# Altium integrated library Infineon_Power_Supply_Voltage_Regulator.IntLib: 346 symbols (part 13 of 16)
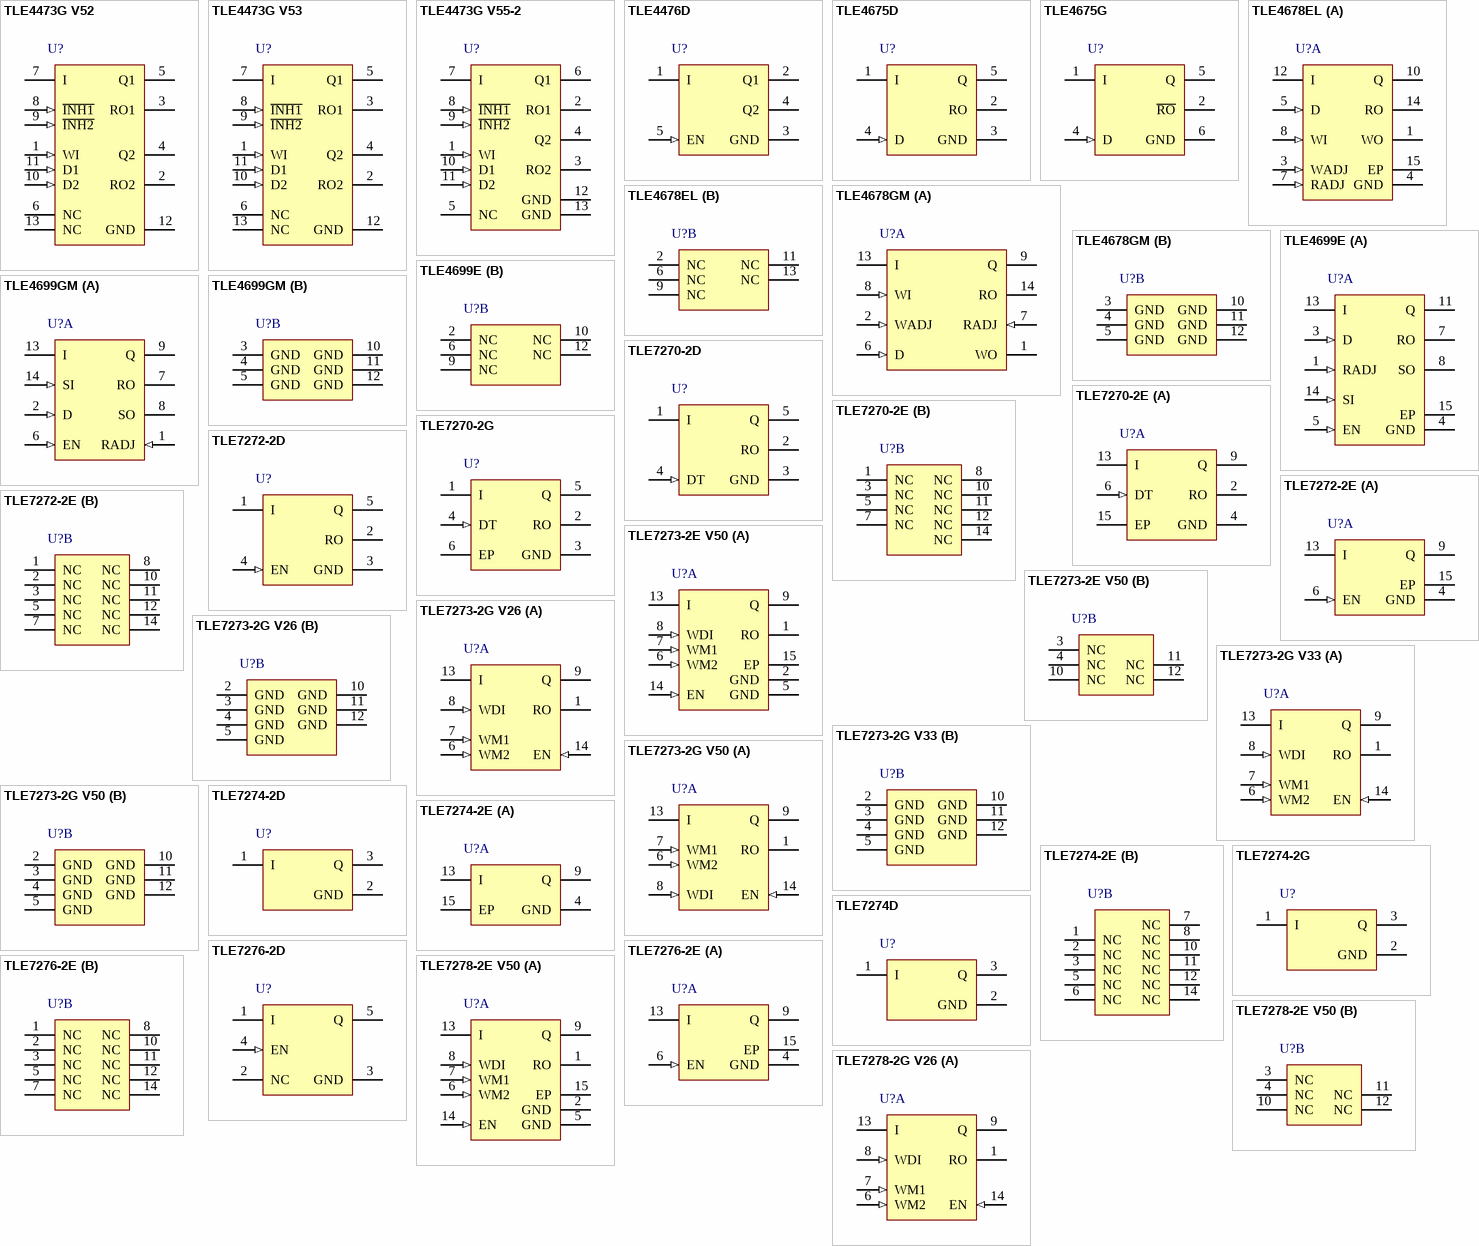
[diagram p21: symbols TLE4473G V52 to TLE7278-2G V26]

## TLE7274D
designator U?
5 V Low Drop Voltage Regluator, 5.5 to 42 V Supply, -40 to 150 degC, P-TO252-3-1, Reel, Green; Manufacturer: Infineon; PartNumber: TLE7274D; Accuracy: 2 %; Dropout Voltage: 250 mV; Max. Output Current: 300 mA; Output Voltage: 5V; Regulator Type: single output; Typical Quiescent Current: 20 uA; DatasheetVersion: Rev. 1.1; PackageVersion: Jul-05; PackageReference: P-TO252-3-1; PackageDescription: 3-Pin Plastic Transistor Single Outline Package, 6.5 x 6.12 mm Body, 2.28 mm Pitch; Supplier 1: Mouser; Supplier Part Number 1: 726-TLE7274D; Supplier 2: Digi-Key; Supplier Part Number 2: TLE7274DTR-ND; Supplier 3: Digi-Key; Supplier Part Number 3: TLE7274DCT-ND; Supplier 4: Digi-Key; Supplier Part Number 4: TLE7274DDKR-ND; Operating Range: 5.5 to 42 V; Packing: Reel; Mounting Technology: Surface Mount; ComponentLink1Description: Manufacturer URL; ComponentLink1URL: http://www.infineon.com/; ComponentLink2Description: Datasheet; ComponentLink2URL: http://www.infineon.com/dgdl/tle727420V1_1.pdf?folderId=db3a304412b407950112b408e8c90004&fileId=db3a304412b407950112b436c18e66c4&location=en.Products.Automotive_ICs.Linear_Voltage_Regulators_for_Automotive-Applications.Linear_Voltage_Regulators_-_Selection_Table.DATASHEET.tle727420V1_1.pdf; ComponentLink3Description: Package Specification; ComponentLink3URL: http://www.infineon.com/dgdl/tle727420V1_1.pdf?folderId=db3a304412b407950112b408e8c90004&fileId=db3a304412b407950112b436c18e66c4&location=en.Products.Automotive_ICs.Linear_Voltage_Regulators_for_Automotive-Applications.Linear_Voltage_Regulators_-_Selection_Table.DATASHEET.tle727420V1_1.pdf
footprint INF-P-TO252-3-1_N (DPAK, 3-Leads, Body 6.5x6.12mm, Pitch 2.28mm, IPC Medium Density)
footprint INF-P-TO252-3-1_L (DPAK, 3-Leads, Body 6.5x6.12mm, Pitch 2.28mm, IPC High Density)
footprint INF-P-TO252-3-1_M (DPAK, 3-Leads, Body 6.5x6.12mm, Pitch 2.28mm, IPC Low Density)
pins: 1 I (power) "Input; block to ground directly at the IC with a ceramic capacitor.", 2 GND (power) "Ground; Connected to the heatsink of the package.", 3 Q (power) "Output; block to ground with a ceramic capacitor."

## TLE7276-2D
designator U?
5 V Low Drop Voltage Regulator, 5.5 to 42 V Supply, -40 to 150 degC, PG-TO252-5-11, Reel, Green; Manufacturer: Infineon; PartNumber: TLE7276-2D; Accuracy: 2 %; Dropout Voltage: 250 mV; Green: TRUE; Max. Output Current: 300 mA; Output Voltage: 5V; Regulator Type: single output; Typical Quiescent Current: 20 uA; DatasheetVersion: Rev. 1.0; PackageVersion: Nov-10; PackageReference: PG-TO252-5-11; PackageDescription: 5-Pin Plastic (Green) Transistor Single Outline Package, 6.5 x 6.12 mm Body, 1.14 mm Pitch; Supplier 1: Mouser; Supplier Part Number 1: 726-TLE7276-2D; Halogen-free: TRUE; Operating Range: 5.5 to 42 V; Packing: Reel; Mounting Technology: Surface Mount; ComponentLink1Description: Manufacturer URL; ComponentLink1URL: http://www.infineon.com/; ComponentLink2Description: Datasheet; ComponentLink2URL: http://www.infineon.com/dgdl/TLE7276-2_DS_10.pdf?folderId=db3a30431ddc9372011e26863f92474e&fileId=db3a30433a047ba0013a541d2e972045&location=en.Products.Automotive_ICs.Linear_Voltage_Regulators_for_Automotive-Applications.Linear_Voltage_Regulators_-_Selection_Table.DATASHEET.TLE7276-2_DS_10.pdf; ComponentLink3Description: Package Specification; ComponentLink3URL: http://www.infineon.com/dgdl/TLE7276-Data+Sheet-+v1_11.pdf?folderId=db3a304412b407950112b408e8c90004&fileId=db3a304412b407950112b436c53f66c8&sId=db3a30433db6f09f013dc0e43c0428c1
footprint INF-PG-TO252-5-11_N (DPAK, 5-Leads, Body 6.5x6.12mm, Pitch 1.14mm, IPC Medium Density)
footprint INF-PG-TO252-5-11_L (DPAK, 5-Leads, Body 6.5x6.12mm, Pitch 1.14mm, IPC High Density)
footprint INF-PG-TO252-5-11_M (DPAK, 5-Leads, Body 6.5x6.12mm, Pitch 1.14mm, IPC Low Density)
pins: 1 I (power) "Input block to ground directly at the IC with a ceramic capacitor", 2 NC "non connected can be open or connected to GND", 3 GND (power) "Heat Slug internally connected to GND; connect to GND and heatsink area", 4 EN (in) "Enable Input high level input signal enables the IC; low level input signal disables the IC; integrated pull-down resistor", 5 Q (power) "block to ground with a capacitor close to the IC terminals, respecting the values given for its capacitance and ESR in “Functional Range?on Page 6"

## TLE7276-2E
designator U?
5 V Low Drop Voltage Regulator, 5.5 to 42 V Supply, -40 to 150 degC, PG-SSOP-14, Reel, Green; Manufacturer: Infineon; PartNumber: TLE7276-2E; Accuracy: 2 %; Dropout Voltage: 250 mV; Green: TRUE; Max. Output Current: 300 mA; Output Voltage: 5V; Regulator Type: single output; Typical Quiescent Current: 20 uA; DatasheetVersion: Rev. 1.0; PackageVersion: Oct-08; PackageReference: PG-SSOP-14; PackageDescription: 14-Pin Plastic (Green) Shrink Small Outline Package, 4.9 x 3.9 mm Body, 0.65 mm Pitch; Supplier 1: Mouser; Supplier Part Number 1: 726-TLE7276-2E; Supplier 2: Digi-Key; Supplier Part Number 2: TLE7276-2ETR-ND; Supplier 3: Digi-Key; Supplier Part Number 3: TLE7276-2ECT-ND; Supplier 4: Digi-Key; Supplier Part Number 4: TLE7276-2EDKR-ND; Halogen-free: TRUE; Operating Range: 5.5 to 42 V; Packing: Reel; Mounting Technology: Surface Mount; ComponentLink1Description: Manufacturer URL; ComponentLink1URL: http://www.infineon.com/; ComponentLink2Description: Datasheet; ComponentLink2URL: http://www.infineon.com/dgdl/TLE7276-2_DS_10.pdf?folderId=db3a30431ddc9372011e26863f92474e&fileId=db3a30433a047ba0013a541d2e972045&location=en.Products.Automotive_ICs.Linear_Voltage_Regulators_for_Automotive-Applications.Linear_Voltage_Regulators_-_Selection_Table.DATASHEET.TLE7276-2_DS_10.pdf; ComponentLink3Description: Package Specification; ComponentLink3URL: http://www.infineon.com/dgdl/ILD1151-Data-Sheet-11-Infineon.pdf?folderId=db3a30431f848401011fcbf2ab4c04c4&fileId=db3a304330046413013031216f2b20e1&location=en.Products.LED_Drivers___Lighting_ICs.LED_Driver_for_Outdoor_Lighting___Indoor_Lighting.LED_Driver__Product_portfolio_and_Information.DATASHEET.ILD1151-Data-Sheet-11-Infineon.pdf
footprint INF-PG-SSOP-14_N (SOP, 14-Leads, Body 4.9x3.9mm, Pitch 0.65mm, Thermal Pad 3.2x2.75mm, IPC Medium Density)
footprint INF-PG-SSOP-14_L (SOP, 14-Leads, Body 4.9x3.9mm, Pitch 0.65mm, Thermal Pad 3.2x2.85mm, IPC High Density)
footprint INF-PG-SSOP-14_M (SOP, 14-Leads, Body 4.9x3.9mm, Pitch 0.65mm, Thermal Pad 3.2x2.55mm, IPC Low Density)
part A pins: 4 GND (power) "Ground", 6 EN (in) "Enable Input high level input signal enables the IC; low level input signal disables the IC; integrated pull-down resistor", 9 Q (power) "Output block to ground with a capacitor close to the IC terminals, respecting the values given for its capacitance and ESR in Functional Range?on Page 6", 13 I (power) "Input block to ground directly at the IC with a ceramic capacitor", 15 EP (power) "Exposed Pad connect to GND and heatsink area"
part B pins: 1 NC "non connected can be open or connected to GND", 2 NC "non connected can be open or connected to GND", 3 NC "non connected can be open or connected to GND", 5 NC "non connected can be open or connected to GND", 7 NC "non connected can be open or connected to GND", 8 NC "non connected can be open or connected to GND", 10 NC "non connected can be open or connected to GND", 11 NC "non connected can be open or connected to GND", 12 NC "non connected can be open or connected to GND", 14 NC "non connected can be open or connected to GND"

## TLE7278-2E V50
designator U?
Low Drop Voltage Regulator, 5.5 to 45 V Supply, 5 V Output, -40 to 150 degC, PG-SSOP-14, Reel, Green; Manufacturer: Infineon; PartNumber: TLE7278-2E V50; Accuracy: 2 %; Dropout Voltage: 250 mV; Green: TRUE; Max. Output Current: 180 mA; Output Voltage: 5V; Regulator Type: single output; Typical Quiescent Current: 28 uA; DatasheetVersion: Rev. 1.2; PackageVersion: Oct-08; PackageReference: PG-SSOP-14; PackageDescription: 14-Pin Plastic (Green) Shrink Small Outline Package, 4.9 x 3.9 mm Body, 0.65 mm Pitch; Supplier 1: Mouser; Supplier Part Number 1: 726-TLE7278-2EV50; Supplier 2: Digi-Key; Supplier Part Number 2: TLE7278-2E V50-ND; Halogen-free: TRUE; Operating Range: 5.5 to 45 V; Packing: Reel; Mounting Technology: Surface Mount; ComponentLink1Description: Manufacturer URL; ComponentLink1URL: http://www.infineon.com/; ComponentLink2Description: Datasheet; ComponentLink2URL: http://www.infineon.com/dgdl/TLE7278-2_DS_12.pdf?folderId=db3a304318f3fe290118f5a433570040&fileId=db3a30431be39b97011be5492aa10094&location=en.Products.Automotive_ICs.Linear_Voltage_Regulators_for_Automotive-Applications.Linear_Voltage_Regulators_-_Selection_Table.DATASHEET.TLE7278-2_DS_12.pdf; ComponentLink3Description: Package Specification; ComponentLink3URL: http://www.infineon.com/dgdl/ILD1151-Data-Sheet-11-Infineon.pdf?folderId=db3a30431f848401011fcbf2ab4c04c4&fileId=db3a304330046413013031216f2b20e1&location=en.Products.LED_Drivers___Lighting_ICs.LED_Driver_for_Outdoor_Lighting___Indoor_Lighting.LED_Driver__Product_portfolio_and_Information.DATASHEET.ILD1151-Data-Sheet-11-Infineon.pdf
footprint INF-PG-SSOP-14_N (SOP, 14-Leads, Body 4.9x3.9mm, Pitch 0.65mm, Thermal Pad 3.2x2.75mm, IPC Medium Density)
footprint INF-PG-SSOP-14_L (SOP, 14-Leads, Body 4.9x3.9mm, Pitch 0.65mm, Thermal Pad 3.2x2.85mm, IPC High Density)
footprint INF-PG-SSOP-14_M (SOP, 14-Leads, Body 4.9x3.9mm, Pitch 0.65mm, Thermal Pad 3.2x2.55mm, IPC Low Density)
part A pins: 1 RO (oc) "Reset Output integrated 20 kOhm pull-up resistor; leave open if not needed", 2 GND (power) "Ground connect to GND", 5 GND (power) "Ground connect to GND", 6 WM2 (in) "Watchdog Mode Bit 2 watchdog and reset mode selection, see Figure 5", 7 WM1 (in) "Watchdog Mode Bit 1 watchdog and reset mode selection, see Figure 5", 8 WDI (in) "Watchdog Input trigger input for watchdog pulses; pull down to GND if not needed and turn off the watchdog with WM1 and WM2 pin", 9 Q (power) "Output Voltage block to GND with a ceramic capacitor close to the IC terminal", 13 I (power) "Input Voltage block to ground directly at the IC with a 100 nF ceramic capacitor", 14 EN (in) "Enable Input low level disables the IC; integrated pull-down resistor", 15 EP (power) "Exposed Pad connect to heatsink area; connect to GND on PCB"
part B pins: 3 NC "not connected leave open or connect to GND", 4 NC "not connected leave open or connect to GND", 10 NC "not connected leave open or connect to GND", 11 NC "not connected leave open or connect to GND", 12 NC "not connected leave open or connect to GND"

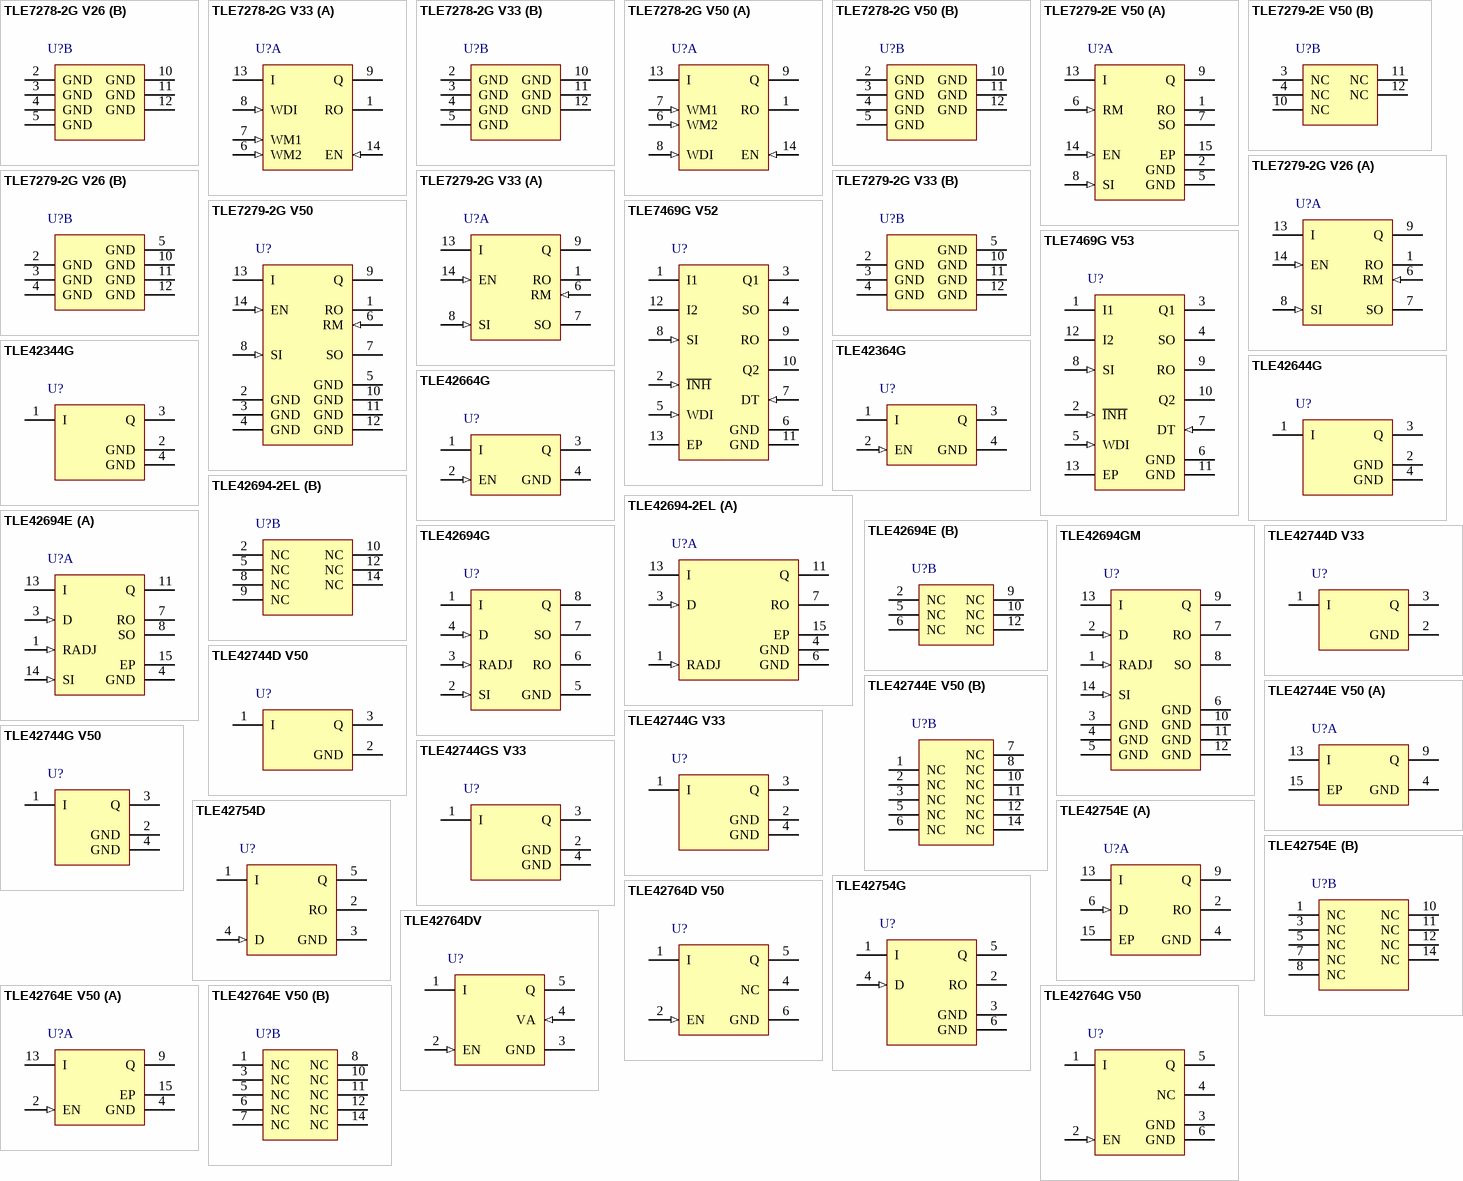
[diagram p8: symbols TLE7278-2G V26 to TLE42764G V50]

## TLE7278-2G V26
designator U?
Low Drop Voltage Regulator, 4.5 to 45 V Supply, 2.6 V Output, -40 to 150 degC, PG-DSO-14-37, Reel, Green; Manufacturer: Infineon; PartNumber: TLE7278-2G V26; Accuracy: 2 %; Dropout Voltage: 250 mV; Green: TRUE; Max. Output Current: 180 mA; Output Voltage: 2.6V; Regulator Type: single output; Typical Quiescent Current: 28 uA; DatasheetVersion: Rev. 1.2; PackageVersion: Sep-07; PackageReference: PG-DSO-14-37; PackageDescription: 14-Pin Plastic (Green) Dual Small Outline Package, 8.65 x 3.9 mm Body, 1.27 mm Pitch; Supplier 1: Mouser; Supplier Part Number 1: 726-TLE7278-2GV26; Supplier 2: Digi-Key; Supplier Part Number 2: TLE7278-2G V26-ND; Halogen-free: TRUE; Operating Range: 4.5 to 45 V; Packing: Reel; Mounting Technology: Surface Mount; ComponentLink1Description: Manufacturer URL; ComponentLink1URL: http://www.infineon.com/; ComponentLink2Description: Datasheet; ComponentLink2URL: http://www.infineon.com/dgdl/TLE7278-2_DS_12.pdf?folderId=db3a304318f3fe290118f5a433570040&fileId=db3a30431be39b97011be5492aa10094&location=en.Products.Automotive_ICs.Linear_Voltage_Regulators_for_Automotive-Applications.Linear_Voltage_Regulators_-_Selection_Table.DATASHEET.TLE7278-2_DS_12.pdf; ComponentLink3Description: Package Specification; ComponentLink3URL: http://www.infineon.com/dgdl/BTS723GWDS11_2007_09_25.pdf?folderId=db3a304314dca389011537739e37155f&fileId=db3a304331c8f8560131dbfec21b0da9&sId=db3a30443d67b5ca013d854df2f133e5
footprint INF-PG-DSO-14-37_N (SOP, 14-Leads, Body 8.65x3.9mm, Pitch 1.27mm, IPC Medium Density)
footprint INF-PG-DSO-14-37_L (SOP, 14-Leads, Body 8.65x3.9mm, Pitch 1.27mm, IPC High Density)
footprint INF-PG-DSO-14-37_M (SOP, 14-Leads, Body 8.65x3.9mm, Pitch 1.27mm, IPC Low Density)
part A pins: 1 RO (oc) "Reset Output, open drain output", 6 WM2 (in) "Watchdog Mode Bit 2 watchdog and reset mode selection,connect to Q or GND", 7 WM1 (in) "Watchdog Mode Bit 1, watchdog and Reset mode selection, connect to Q or GND", 8 WDI (in) "Watchdog Input, trigger input for watchdog pulses;  pull down to GND if not needed and turn off the watchdog with WM1 and WM2 pin", 9 Q (power) "Output Voltage, block to GND with a ceramic capacitor close to the IC terminals, respecting the  values given for its capacitance and ESR in "Functional Range" on Page 7", 13 I (power) "Input Voltage, block to ground directly at the IC with a 100 nF ceramic capacitor", 14 EN (in) "Enable Input, low level disables the IC; integrated pull-down resistor to GND"
part B pins: 2 GND (power) "Ground, connect pin 2 and 3 to GND; connect pin 4-5, 10-12 to PCB heat sink area with GND potential", 3 GND (power) "Ground, connect pin 2 and 3 to GND; connect pin 4-5, 10-12 to PCB heat sink area with GND potential", 4 GND (power) "Ground, connect pin 2 and 3 to GND; connect pin 4-5, 10-12 to PCB heat sink area with GND potential", 5 GND (power) "Ground, connect pin 2 and 3 to GND; connect pin 4-5, 10-12 to PCB heat sink area with GND potential", 10 GND (power) "Ground, connect pin 2 and 3 to GND; connect pin 4-5, 10-12 to PCB heat sink area with GND potential", 11 GND (power) "Ground, connect pin 2 and 3 to GND; connect pin 4-5, 10-12 to PCB heat sink area with GND potential", 12 GND (power) "Ground, connect pin 2 and 3 to GND; connect pin 4-5, 10-12 to PCB heat sink area with GND potential"

## TLE7278-2G V33
designator U?
Low Drop Voltage Regulator, 4.2 to 45 V Supply, 3.3 V Output, -40 to 150 degC, PG-DSO-14-37, Reel, Green; Manufacturer: Infineon; PartNumber: TLE7278-2G V33; Accuracy: 2 %; Dropout Voltage: 250 mV; Green: TRUE; Max. Output Current: 180 mA; Output Voltage: 3.3V; Regulator Type: single output; Typical Quiescent Current: 28 uA; DatasheetVersion: Rev. 1.2; PackageVersion: Sep-07; PackageReference: PG-DSO-14-37; PackageDescription: 14-Pin Plastic (Green) Dual Small Outline Package, 8.65 x 3.9 mm Body, 1.27 mm Pitch; Supplier 1: Mouser; Supplier Part Number 1: 726-TLE72782GV33; Supplier 2: Digi-Key; Supplier Part Number 2: TLE7278-2G V33-ND; Halogen-free: TRUE; Operating Range: 4.2 to 45 V; Packing: Reel; Mounting Technology: Surface Mount; ComponentLink1Description: Manufacturer URL; ComponentLink1URL: http://www.infineon.com/; ComponentLink2Description: Datasheet; ComponentLink2URL: http://www.infineon.com/dgdl/TLE7278-2_DS_12.pdf?folderId=db3a304318f3fe290118f5a433570040&fileId=db3a30431be39b97011be5492aa10094&location=en.Products.Automotive_ICs.Linear_Voltage_Regulators_for_Automotive-Applications.Linear_Voltage_Regulators_-_Selection_Table.DATASHEET.TLE7278-2_DS_12.pdf; ComponentLink3Description: Package Specification; ComponentLink3URL: http://www.infineon.com/dgdl/BTS723GWDS11_2007_09_25.pdf?folderId=db3a304314dca389011537739e37155f&fileId=db3a304331c8f8560131dbfec21b0da9&sId=db3a30443d67b5ca013d854df2f133e5
footprint INF-PG-DSO-14-37_N (SOP, 14-Leads, Body 8.65x3.9mm, Pitch 1.27mm, IPC Medium Density)
footprint INF-PG-DSO-14-37_L (SOP, 14-Leads, Body 8.65x3.9mm, Pitch 1.27mm, IPC High Density)
footprint INF-PG-DSO-14-37_M (SOP, 14-Leads, Body 8.65x3.9mm, Pitch 1.27mm, IPC Low Density)
part A pins: 1 RO (oc) "Reset Output, open drain output", 6 WM2 (in) "Watchdog Mode Bit 2 watchdog and reset mode selection,connect to Q or GND", 7 WM1 (in) "Watchdog Mode Bit 1, watchdog and Reset mode selection, connect to Q or GND", 8 WDI (in) "Watchdog Input, trigger input for watchdog pulses;  pull down to GND if not needed and turn off the watchdog with WM1 and WM2 pin", 9 Q (power) "Output Voltage, block to GND with a ceramic capacitor close to the IC terminals, respecting the  values given for its capacitance and ESR in "Functional Range" on Page 7", 13 I (power) "Input Voltage, block to ground directly at the IC with a 100 nF ceramic capacitor", 14 EN (in) "Enable Input, low level disables the IC; integrated pull-down resistor to GND"
part B pins: 2 GND (power) "Ground, connect pin 2 and 3 to GND; connect pin 4-5, 10-12 to PCB heat sink area with GND potential", 3 GND (power) "Ground, connect pin 2 and 3 to GND; connect pin 4-5, 10-12 to PCB heat sink area with GND potential", 4 GND (power) "Ground, connect pin 2 and 3 to GND; connect pin 4-5, 10-12 to PCB heat sink area with GND potential", 5 GND (power) "Ground, connect pin 2 and 3 to GND; connect pin 4-5, 10-12 to PCB heat sink area with GND potential", 10 GND (power) "Ground, connect pin 2 and 3 to GND; connect pin 4-5, 10-12 to PCB heat sink area with GND potential", 11 GND (power) "Ground, connect pin 2 and 3 to GND; connect pin 4-5, 10-12 to PCB heat sink area with GND potential", 12 GND (power) "Ground, connect pin 2 and 3 to GND; connect pin 4-5, 10-12 to PCB heat sink area with GND potential"

## TLE7278-2G V50
designator U?
Low Drop Voltage Regulator, 5.5 to 45 V Supply, 5 V Output, -40 to 150 degC, PG-DSO-14-37, Reel, Green; Manufacturer: Infineon; PartNumber: TLE7278-2G V50; Accuracy: 2 %; Dropout Voltage: 250 mV; Green: TRUE; Max. Output Current: 180 mA; Output Voltage: 5V; Regulator Type: single output; Typical Quiescent Current: 28 uA; DatasheetVersion: Rev. 1.2; PackageVersion: Sep-07; PackageReference: PG-DSO-14-37; PackageDescription: 14-Pin Plastic (Green) Dual Small Outline Package, 8.65 x 3.9 mm Body, 1.27 mm Pitch; Supplier 1: Mouser; Supplier Part Number 1: 726-TLE72782GV50; Supplier 2: Digi-Key; Supplier Part Number 2: TLE7278-2G V50INTR-ND; Supplier 3: Digi-Key; Supplier Part Number 3: TLE7278-2G V50INCT-ND; Supplier 4: Digi-Key; Supplier Part Number 4: TLE7278-2G V50INDKR-ND; Halogen-free: TRUE; Operating Range: 5.5 to 45 V; Packing: Reel; Mounting Technology: Surface Mount; ComponentLink1Description: Manufacturer URL; ComponentLink1URL: http://www.infineon.com/; ComponentLink2Description: Datasheet; ComponentLink2URL: http://www.infineon.com/dgdl/TLE7278-2_DS_12.pdf?folderId=db3a304318f3fe290118f5a433570040&fileId=db3a30431be39b97011be5492aa10094&location=en.Products.Automotive_ICs.Linear_Voltage_Regulators_for_Automotive-Applications.Linear_Voltage_Regulators_-_Selection_Table.DATASHEET.TLE7278-2_DS_12.pdf; ComponentLink3Description: Package Specification; ComponentLink3URL: http://www.infineon.com/dgdl/BTS723GWDS11_2007_09_25.pdf?folderId=db3a304314dca389011537739e37155f&fileId=db3a304331c8f8560131dbfec21b0da9&sId=db3a30443d67b5ca013d854df2f133e5
footprint INF-PG-DSO-14-37_N (SOP, 14-Leads, Body 8.65x3.9mm, Pitch 1.27mm, IPC Medium Density)
footprint INF-PG-DSO-14-37_L (SOP, 14-Leads, Body 8.65x3.9mm, Pitch 1.27mm, IPC High Density)
footprint INF-PG-DSO-14-37_M (SOP, 14-Leads, Body 8.65x3.9mm, Pitch 1.27mm, IPC Low Density)
part A pins: 1 RO (oc), 6 WM2 (in) "Watchdog Mode Bit 2 watchdog and reset mode selection, see Figure 5; connect to Q or GND", 7 WM1 (in) "Watchdog Mode Bit 1 watchdog and Reset mode selection, see Figure 5; connect to Q or GND", 8 WDI (in) "Watchdog Input trigger input for watchdog pulses; pull down to GND if not needed and turn off the watchdog with WM1 and WM2 pin", 9 Q (power) "Output Voltage block to GND with a ceramic capacitor close to the IC terminals, respecting the values given for its capacitance CQ and ESR in “Functional Range” on Page 7", 13 I (power) "Input Voltage block to ground directly at the IC with a 100 nF ceramic capacitor", 14 EN (in) "Enable Input low level disables the IC; integrated pull-down resistor to GND"
part B pins: 2 GND (power) "Ground connect pin 2 and 3 to GND; connect pin 4-5, 10-12 to PCB heat sink area with GND potential", 3 GND (power) "Ground connect pin 2 and 3 to GND; connect pin 4-5, 10-12 to PCB heat sink area with GND potential", 4 GND (power) "Ground connect pin 2 and 3 to GND; connect pin 4-5, 10-12 to PCB heat sink area with GND potential", 5 GND (power) "Ground connect pin 2 and 3 to GND; connect pin 4-5, 10-12 to PCB heat sink area with GND potential", 10 GND (power) "Ground connect pin 2 and 3 to GND; connect pin 4-5, 10-12 to PCB heat sink area with GND potential", 11 GND (power) "Ground connect pin 2 and 3 to GND; connect pin 4-5, 10-12 to PCB heat sink area with GND potential", 12 GND (power) "Ground connect pin 2 and 3 to GND; connect pin 4-5, 10-12 to PCB heat sink area with GND potential"

## TLE7279-2E V50
designator U?
Low Drop Voltage Regulator, 5.5 to 45 V Supply, 5 V Output, -40 to 150 degC, PG-SSOP-14, Reel, Green; Manufacturer: Infineon; PartNumber: TLE7279-2E V50; Accuracy: 2 %; Dropout Voltage: 250 mV; Green: TRUE; Max. Output Current: 180 mA; Output Voltage: 5V; Regulator Type: single output; Typical Quiescent Current: 28 uA; DatasheetVersion: Rev. 1.2; PackageVersion: Oct-08; PackageReference: PG-SSOP-14; PackageDescription: 14-Pin Plastic (Green) Shrink Small Outline Package, 4.9 x 3.9 mm Body, 0.65 mm Pitch; Supplier 1: Mouser; Supplier Part Number 1: 726-TLE7279-2EV50; Supplier 2: Digi-Key; Supplier Part Number 2: TLE7279-2E V50-ND; Halogen-free: TRUE; Operating Range: 5.5 to 45 V; Packing: Reel; Mounting Technology: Surface Mount; ComponentLink1Description: Manufacturer URL; ComponentLink1URL: http://www.infineon.com/; ComponentLink2Description: Datasheet; ComponentLink2URL: http://www.infineon.com/dgdl/TLE7279-2_DS_12.pdf?folderId=db3a304318f3fe290118f5a433570040&fileId=db3a30431be39b97011be54c333b00a0&location=en.Products.Automotive_ICs.Linear_Voltage_Regulators_for_Automotive-Applications.Linear_Voltage_Regulators_-_Selection_Table.DATASHEET.TLE7279-2_DS_12.pdf; ComponentLink3Description: Package Specification; ComponentLink3URL: http://www.infineon.com/dgdl/ILD1151-Data-Sheet-11-Infineon.pdf?folderId=db3a30431f848401011fcbf2ab4c04c4&fileId=db3a304330046413013031216f2b20e1&location=en.Products.LED_Drivers___Lighting_ICs.LED_Driver_for_Outdoor_Lighting___Indoor_Lighting.LED_Driver__Product_portfolio_and_Information.DATASHEET.ILD1151-Data-Sheet-11-Infineon.pdf
footprint INF-PG-SSOP-14_N (SOP, 14-Leads, Body 4.9x3.9mm, Pitch 0.65mm, Thermal Pad 3.2x2.75mm, IPC Medium Density)
footprint INF-PG-SSOP-14_L (SOP, 14-Leads, Body 4.9x3.9mm, Pitch 0.65mm, Thermal Pad 3.2x2.85mm, IPC High Density)
footprint INF-PG-SSOP-14_M (SOP, 14-Leads, Body 4.9x3.9mm, Pitch 0.65mm, Thermal Pad 3.2x2.55mm, IPC Low Density)
part A pins: 1 RO (oc) "Reset Output integrated 20 k ohm pull-up resistor; leave open if Reset is not needed", 2 GND (power) "Ground connect pin 2 and 5 to GND", 5 GND (power) "Ground connect pin 2 and 5 to GND", 6 RM (in) "Reset Mode power-on reset delay time selection: set to LOW for fast timing, to HIGH for slow  timing; see reset timing definitions in “Electrical Characteristics" on Page 10; connect to Q or GND", 7 SO (oc) "Sense Output integrated 20 k ohm pull-up resistor; keep open, if sense comparator not needed", 8 SI (in) "Sense Input connect to Q if not needed", 9 Q (power) "Output Voltage block to GND with a ceramic capacitor close to the IC terminals, respecting the  values given for its capacitance and ESR in “Functional Range" on Page 7", 13 I (power) "Input Voltage block to ground directly at the IC with a 100 nF ceramic capacitor", 14 EN (in) "Enable Input low level disables the IC; integrated pull-down resistor to GND", 15 EP (power) "Exposed Pad connect to heatsink area; connect to GND on PCB"
part B pins: 3 NC "not connected leave open or connect to GND", 4 NC "not connected leave open or connect to GND", 10 NC "not connected leave open or connect to GND", 11 NC "not connected leave open or connect to GND", 12 NC "not connected leave open or connect to GND"

## TLE7279-2G V26
designator U?
Low Drop Voltage Regulator, 4.5 to 45 V Supply, 2.6 V Output, -40 to 150 degC, PG-DSO-14-37, Reel, Green; Manufacturer: Infineon; PartNumber: TLE7279-2G V26; Accuracy: 2 %; Dropout Voltage: 250 mV; Green: TRUE; Max. Output Current: 180 mA; Output Voltage: 2.6V; Regulator Type: single output; Typical Quiescent Current: 28 uA; DatasheetVersion: Rev. 1.2; PackageVersion: Sep-07; PackageReference: PG-DSO-14-37; PackageDescription: 14-Pin Plastic (Green) Dual Small Outline Package, 8.65 x 3.9 mm Body, 1.27 mm Pitch; Supplier 1: Mouser; Supplier Part Number 1: 726-TLE7279-2GV26; Supplier 2: Digi-Key; Supplier Part Number 2: TLE7279-2G V26-ND; Halogen-free: TRUE; Operating Range: 4.5 to 45 V; Packing: Reel; Mounting Technology: Surface Mount; ComponentLink1Description: Manufacturer URL; ComponentLink1URL: http://www.infineon.com/; ComponentLink2Description: Datasheet; ComponentLink2URL: http://www.infineon.com/dgdl/TLE7279-2_DS_12.pdf?folderId=db3a304318f3fe290118f5a433570040&fileId=db3a30431be39b97011be54c333b00a0&location=en.Products.Automotive_ICs.Linear_Voltage_Regulators_for_Automotive-Applications.Linear_Voltage_Regulators_-_Selection_Table.DATASHEET.TLE7279-2_DS_12.pdf; ComponentLink3Description: Package Specification; ComponentLink3URL: http://www.infineon.com/dgdl/BTS723GWDS11_2007_09_25.pdf?folderId=db3a304314dca389011537739e37155f&fileId=db3a304331c8f8560131dbfec21b0da9&sId=db3a30443d67b5ca013d854df2f133e5
footprint INF-PG-DSO-14-37_N (SOP, 14-Leads, Body 8.65x3.9mm, Pitch 1.27mm, IPC Medium Density)
footprint INF-PG-DSO-14-37_L (SOP, 14-Leads, Body 8.65x3.9mm, Pitch 1.27mm, IPC High Density)
footprint INF-PG-DSO-14-37_M (SOP, 14-Leads, Body 8.65x3.9mm, Pitch 1.27mm, IPC Low Density)
part A pins: 1 RO (oc) "Reset Output TLE7279-2GV33, TLE7279-2GV26: open drain output; TLE7279-2GV50: integrated 20 k? pull-up resistor; leave open if Reset is not needed", 6 RM (in) "Reset Mode power-on reset delay time selection: set to LOW for fast timing, to HIGH for slow  timing; see reset timing definitions in “Electrical Characteristics” on Page 10; connect to Q or GND", 7 SO (oc) "Sense Output TLE7279-2GV33, TLE7279-2GV26: open-drain output; TLE7279-2GV50: integrated 20 k? pull-up resistor; keep open, if sense comparator not needed", 8 SI (in) "Sense Input connect to Q if not needed", 9 Q (power) "Output Voltage block to GND with a ceramic capacitor close to the IC terminals, respecting the  values given for its capacitance and ESR in “Functional Range” on Page 7", 13 I (power) "Input Voltage block to ground directly at the IC with a 100 nF ceramic capacitor", 14 EN (in) "Enable Input low level disables the IC; integrated pull-down resistor to GND"
part B pins: 2 GND (power) "Ground connect pin 2 and 3 to GND; connect pin 4-5, 10-12 to PCB heat sink area with GND potential", 3 GND (power) "Ground connect pin 2 and 3 to GND; connect pin 4-5, 10-12 to PCB heat sink area with GND potential", 4 GND (power) "Ground connect pin 2 and 3 to GND; connect pin 4-5, 10-12 to PCB heat sink area with GND potential", 5 GND (power) "Ground connect pin 2 and 3 to GND; connect pin 4-5, 10-12 to PCB heat sink area with GND potential", 10 GND (power) "Ground connect pin 2 and 3 to GND; connect pin 4-5, 10-12 to PCB heat sink area with GND potential", 11 GND (power) "Ground connect pin 2 and 3 to GND; connect pin 4-5, 10-12 to PCB heat sink area with GND potential", 12 GND (power) "Ground connect pin 2 and 3 to GND; connect pin 4-5, 10-12 to PCB heat sink area with GND potential"

## TLE7279-2G V33
designator U?
Low Drop Voltage Regulator, 4.2 to 45 V Supply, 3.3 V Output, -40 to 150 degC, PG-DSO-14-37, Reel, Green; Manufacturer: Infineon; PartNumber: TLE7279-2G V33; Accuracy: 2 %; Dropout Voltage: 250 mV; Green: TRUE; Max. Output Current: 180 mA; Output Voltage: 3.3V; Regulator Type: single output; Typical Quiescent Current: 28 uA; DatasheetVersion: Rev. 1.2; PackageVersion: Sep-07; PackageReference: PG-DSO-14-37; PackageDescription: 14-Pin Plastic (Green) Dual Small Outline Package, 8.65 x 3.9 mm Body, 1.27 mm Pitch; Supplier 1: Mouser; Supplier Part Number 1: 726-TLE72792GV33; Supplier 2: Digi-Key; Supplier Part Number 2: TLE7279-2G V33-ND; Halogen-free: TRUE; Operating Range: 4.2 to 45 V; Packing: Reel; Mounting Technology: Surface Mount; ComponentLink1Description: Manufacturer URL; ComponentLink1URL: http://www.infineon.com/; ComponentLink2Description: Datasheet; ComponentLink2URL: http://www.infineon.com/dgdl/TLE7279-2_DS_12.pdf?folderId=db3a304318f3fe290118f5a433570040&fileId=db3a30431be39b97011be54c333b00a0&location=en.Products.Automotive_ICs.Linear_Voltage_Regulators_for_Automotive-Applications.Linear_Voltage_Regulators_-_Selection_Table.DATASHEET.TLE7279-2_DS_12.pdf; ComponentLink3Description: Package Specification; ComponentLink3URL: http://www.infineon.com/dgdl/BTS723GWDS11_2007_09_25.pdf?folderId=db3a304314dca389011537739e37155f&fileId=db3a304331c8f8560131dbfec21b0da9&sId=db3a30443d67b5ca013d854df2f133e5
footprint INF-PG-DSO-14-37_N (SOP, 14-Leads, Body 8.65x3.9mm, Pitch 1.27mm, IPC Medium Density)
footprint INF-PG-DSO-14-37_L (SOP, 14-Leads, Body 8.65x3.9mm, Pitch 1.27mm, IPC High Density)
footprint INF-PG-DSO-14-37_M (SOP, 14-Leads, Body 8.65x3.9mm, Pitch 1.27mm, IPC Low Density)
part A pins: 1 RO (oc) "Reset Output TLE7279-2GV33, TLE7279-2GV26: open drain output; TLE7279-2GV50: integrated 20 k? pull-up resistor; leave open if Reset is not needed", 6 RM (in) "Reset Mode power-on reset delay time selection: set to LOW for fast timing, to HIGH for slow  timing; see reset timing definitions in “Electrical Characteristics” on Page 10; connect to Q or GND", 7 SO (oc) "Sense Output TLE7279-2GV33, TLE7279-2GV26: open-drain output; TLE7279-2GV50: integrated 20 k? pull-up resistor; keep open, if sense comparator not needed", 8 SI (in) "Sense Input connect to Q if not needed", 9 Q (power) "Output Voltage block to GND with a ceramic capacitor close to the IC terminals, respecting the  values given for its capacitance and ESR in “Functional Range” on Page 7", 13 I (power) "Input Voltage block to ground directly at the IC with a 100 nF ceramic capacitor", 14 EN (in) "Enable Input low level disables the IC; integrated pull-down resistor to GND"
part B pins: 2 GND (power) "Ground connect pin 2 and 3 to GND; connect pin 4-5, 10-12 to PCB heat sink area with GND potential", 3 GND (power) "Ground connect pin 2 and 3 to GND; connect pin 4-5, 10-12 to PCB heat sink area with GND potential", 4 GND (power) "Ground connect pin 2 and 3 to GND; connect pin 4-5, 10-12 to PCB heat sink area with GND potential", 5 GND (power) "Ground connect pin 2 and 3 to GND; connect pin 4-5, 10-12 to PCB heat sink area with GND potential", 10 GND (power) "Ground connect pin 2 and 3 to GND; connect pin 4-5, 10-12 to PCB heat sink area with GND potential", 11 GND (power) "Ground connect pin 2 and 3 to GND; connect pin 4-5, 10-12 to PCB heat sink area with GND potential", 12 GND (power) "Ground connect pin 2 and 3 to GND; connect pin 4-5, 10-12 to PCB heat sink area with GND potential"

## TLE7279-2G V50
designator U?
Low Drop Voltage Regulator, 5.5 to 45 V Supply, 5 V Output, -40 to 150 degC, PG-DSO-14-37, Reel, Green; Manufacturer: Infineon; PartNumber: TLE7279-2G V50; Accuracy: 2 %; Dropout Voltage: 250 mV; Green: TRUE; Max. Output Current: 180 mA; Output Voltage: 5V; Regulator Type: single output; Typical Quiescent Current: 28 uA; DatasheetVersion: Rev. 1.2; PackageVersion: Sep-07; PackageReference: PG-DSO-14-37; PackageDescription: 14-Pin Plastic (Green) Dual Small Outline Package, 8.65 x 3.9 mm Body, 1.27 mm Pitch; Supplier 1: Mouser; Supplier Part Number 1: 726-TLE72792GV50; Supplier 2: Digi-Key; Supplier Part Number 2: TLE7279-2G V50INTR-ND; Supplier 3: Digi-Key; Supplier Part Number 3: TLE7279-2G V50INCT-ND; Supplier 4: Digi-Key; Supplier Part Number 4: TLE7279-2G V50INDKR-ND; Halogen-free: TRUE; Operating Range: 5.5 to 45 V; Packing: Reel; Mounting Technology: Surface Mount; ComponentLink1Description: Manufacturer URL; ComponentLink1URL: http://www.infineon.com/; ComponentLink2Description: Datasheet; ComponentLink2URL: http://www.infineon.com/dgdl/TLE7279-2_DS_12.pdf?folderId=db3a304318f3fe290118f5a433570040&fileId=db3a30431be39b97011be54c333b00a0&location=en.Products.Automotive_ICs.Linear_Voltage_Regulators_for_Automotive-Applications.Linear_Voltage_Regulators_-_Selection_Table.DATASHEET.TLE7279-2_DS_12.pdf; ComponentLink3Description: Package Specification; ComponentLink3URL: http://www.infineon.com/dgdl/BTS723GWDS11_2007_09_25.pdf?folderId=db3a304314dca389011537739e37155f&fileId=db3a304331c8f8560131dbfec21b0da9&sId=db3a30443d67b5ca013d854df2f133e5
footprint INF-PG-DSO-14-37_N (SOP, 14-Leads, Body 8.65x3.9mm, Pitch 1.27mm, IPC Medium Density)
footprint INF-PG-DSO-14-37_L (SOP, 14-Leads, Body 8.65x3.9mm, Pitch 1.27mm, IPC High Density)
footprint INF-PG-DSO-14-37_M (SOP, 14-Leads, Body 8.65x3.9mm, Pitch 1.27mm, IPC Low Density)
pins: 1 RO (oc) "Reset Output TLE7279-2GV33, TLE7279-2GV26: open drain output; TLE7279-2GV50: integrated 20 k ohm pull-up resistor; leave open if Reset is not needed", 2 GND (power) "Ground connect pin 2 and 3 to GND; connect pin 4-5, 10-12 to PCB heat sink area with GND potential", 3 GND (power) "Ground connect pin 2 and 3 to GND; connect pin 4-5, 10-12 to PCB heat sink area with GND potential", 4 GND (power) "Ground connect pin 2 and 3 to GND; connect pin 4-5, 10-12 to PCB heat sink area with GND potential", 5 GND (power) "Ground connect pin 2 and 3 to GND; connect pin 4-5, 10-12 to PCB heat sink area with GND potential", 6 RM (in) "Reset Mode power-on reset delay time selection: set to LOW for fast timing, to HIGH for slow  timing; see reset timing definitions in “Electrical Characteristics” on Page 10; connect to Q or GND", 7 SO (oc) "Sense Output TLE7279-2GV33, TLE7279-2GV26: open-drain output; TLE7279-2GV50: integrated 20 k ohm pull-up resistor; keep open, if sense comparator not needed", 8 SI (in) "Sense Input connect to Q if not needed", 9 Q (power) "Output Voltage block to GND with a ceramic capacitor close to the IC terminals, respecting the  values given for its capacitance and ESR in “Functional Range” on Page 7", 10 GND (power) "Ground connect pin 2 and 3 to GND; connect pin 4-5, 10-12 to PCB heat sink area with GND potential", 11 GND (power) "Ground connect pin 2 and 3 to GND; connect pin 4-5, 10-12 to PCB heat sink area with GND potential", 12 GND (power) "Ground connect pin 2 and 3 to GND; connect pin 4-5, 10-12 to PCB heat sink area with GND potential", 13 I (power) "Input Voltage block to ground directly at the IC with a 100 nF ceramic capacitor", 14 EN (in) "Enable Input low level disables the IC; integrated pull-down resistor to GND"

## TLE7469G V52
designator U?
Dual Low Drop Voltage Regulator, 4.2 to 45 V Supply, 5 V / 2.6 V Output, -40 to 150 degC, PG-DSO-12-4, Reel, Green; Manufacturer: Infineon; PartNumber: TLE7469G V52; Accuracy: 2 % 4 %; Dropout Voltage: 300 mV; Green: TRUE; Max. Output Current: 215 mA 200 mA; Output Voltage: 5V 2.6V; Regulator Type: multiple output; Typical Quiescent Current: 55 uA; DatasheetVersion: Rev. 1.6; PackageVersion: Sep-08; PackageReference: PG-DSO-12-4; PackageDescription: 12-Pin Plastic (Green) Dual Small Outline Package, 6.4 x 7.5 mm Body, 1 mm Pitch; Supplier 1: Mouser; Supplier Part Number 1: 726-TLE7469GV52; Supplier 2: Newark; Supplier Part Number 2: 47W3787; Supplier 3: Farnell; Supplier Part Number 3: 2215556; Supplier 4: Digi-Key; Supplier Part Number 4: TLE7469G V52TR-ND; Supplier 5: Digi-Key; Supplier Part Number 5: TLE7469G V52CT-ND; Supplier 6: Digi-Key; Supplier Part Number 6: TLE7469G V52DKR-ND; Halogen-free: TRUE; Operating Range: 4.2 to 45 V; Packing: Reel; Mounting Technology: Surface Mount; ComponentLink1Description: Manufacturer URL; ComponentLink1URL: http://www.infineon.com/; ComponentLink2Description: Datasheet; ComponentLink2URL: http://www.infineon.com/dgdl/TLE7469_DS_16%5B1%5D.pdf?folderId=db3a304318f3fe290118f5a433570040&fileId=db3a30431c48a312011c55e5d3f00254&location=en.Products.Automotive_ICs.Linear_Voltage_Regulators_for_Automotive-Applications.Linear_Voltage_Regulators_-_Selection_Table.DATASHEET.TLE7469_DS_16[1].pdf; ComponentLink3Description: Package Specification; ComponentLink3URL: http://www.infineon.com/dgdl/TLE4473GV52-53_DS_11%5B1%5D.pdf?folderId=db3a30431ff988150120802bce1d257a&fileId=db3a30431ff988150120802d92102580&location=en.Products.Automotive_ICs.Linear_Voltage_Regulators_for_Automotive-Applications.Linear_Voltage_Regulators_-_Selection_Table.DATASHEET.TLE4473GV52-53_DS_11[1].pdf
footprint INF-PG-DSO-12-4_N (SOP, 12-Leads, Body 7.5x6.4mm, Pitch 1mm, Thermal Pad 7.9x4.3mm, IPC Medium Density)
footprint INF-PG-DSO-12-4_L (SOP, 12-Leads, Body 7.5x6.4mm, Pitch 1mm, Thermal Pad 7.9x4.3mm, IPC High Density)
footprint INF-PG-DSO-12-4_M (SOP, 12-Leads, Body 7.5x6.4mm, Pitch 1mm, Thermal Pad 7.9x4.3mm, IPC Low Density)
pins: 1 I1 (power) "Input voltage 1; block to ground directly at the IC with a 100 nF ceramic capacitor", 2 ~{INH} (in) "Inhibit Input; low level disables the IC. Integrated pull-down resistor", 3 Q1 (power) "Output voltage 1; 5.0 V, block to GND with a capacitor CQ1 = 1 uF, ESR < 6 O at 10 kHz", 4 SO (oc) "Sense output; Output of Early Warning Comparator, open collector output", 5 WDI (in) "Watchdog Input; Trigger Input for Watchdog pulses", 6 GND (power) "Ground; Pin 6, 11 and heat slug must be connected to GND", 7 DT (in) "DT Delay timing; connect to GND, Q1 or Q2 to select Reset and Watchdog timing", 8 SI (in) "Sense input; Input for Early Warning comparator", 9 RO (oc) "Reset output; open collector output with integrated 20 kO pull-up resistor", 10 Q2 (power) "Output voltage 2; 2.6 V (TLE 7469 GV52), 3.3 V (TLE 7469 GV53); block to GND with a capacitor CQ2 = 1 uF, ESR < 6 ohm at 10 kHz", 11 GND (power) "Ground; Pin 6, 11 and heat slug must be connected to GND", 12 I2 (power) "Input voltage 2; block to ground directly at the IC with a 100 nF ceramic capacitor", 13 EP (power) "Heat slug"

## TLE7469G V53
designator U?
Dual Low Drop Voltage Regulator, 4.2 to 45 V Supply, 5 V / 3.3 V Output, -40 to 150 degC, PG-DSO-12-4, Reel, Green; Manufacturer: Infineon; PartNumber: TLE7469G V53; Accuracy: 2 % 3 %; Dropout Voltage: 300 mV; Green: TRUE; Max. Output Current: 215 mA 200 mA; Output Voltage: 5V 3.3V; Regulator Type: multiple output; Typical Quiescent Current: 55 uA; DatasheetVersion: Rev. 1.6; PackageVersion: Sep-08; PackageReference: PG-DSO-12-4; PackageDescription: 12-Pin Plastic (Green) Dual Small Outline Package, 6.4 x 7.5 mm Body, 1 mm Pitch; Supplier 1: Mouser; Supplier Part Number 1: 726-TLE7469GV53; Supplier 2: Digi-Key; Supplier Part Number 2: TLE7469G V53TR-ND; Supplier 3: Digi-Key; Supplier Part Number 3: TLE7469G V53CT-ND; Supplier 4: Digi-Key; Supplier Part Number 4: TLE7469G V53DKR-ND; Halogen-free: TRUE; Operating Range: 4.2 to 45 V; Packing: Reel; Mounting Technology: Surface Mount; ComponentLink1Description: Manufacturer URL; ComponentLink1URL: http://www.infineon.com/; ComponentLink2Description: Datasheet; ComponentLink2URL: http://www.infineon.com/dgdl/TLE7469_DS_16%5B1%5D.pdf?folderId=db3a304318f3fe290118f5a433570040&fileId=db3a30431c48a312011c55e5d3f00254&location=en.Products.Automotive_ICs.Linear_Voltage_Regulators_for_Automotive-Applications.Linear_Voltage_Regulators_-_Selection_Table.DATASHEET.TLE7469_DS_16[1].pdf; ComponentLink3Description: Package Specification; ComponentLink3URL: http://www.infineon.com/dgdl/TLE4473GV52-53_DS_11%5B1%5D.pdf?folderId=db3a30431ff988150120802bce1d257a&fileId=db3a30431ff988150120802d92102580&location=en.Products.Automotive_ICs.Linear_Voltage_Regulators_for_Automotive-Applications.Linear_Voltage_Regulators_-_Selection_Table.DATASHEET.TLE4473GV52-53_DS_11[1].pdf
footprint INF-PG-DSO-12-4_N (SOP, 12-Leads, Body 7.5x6.4mm, Pitch 1mm, Thermal Pad 7.9x4.3mm, IPC Medium Density)
footprint INF-PG-DSO-12-4_L (SOP, 12-Leads, Body 7.5x6.4mm, Pitch 1mm, Thermal Pad 7.9x4.3mm, IPC High Density)
footprint INF-PG-DSO-12-4_M (SOP, 12-Leads, Body 7.5x6.4mm, Pitch 1mm, Thermal Pad 7.9x4.3mm, IPC Low Density)
pins: 1 I1 (power) "Input voltage 1; block to ground directly at the IC with a 100 nF ceramic capacitor", 2 ~{INH} (in) "Inhibit Input; low level disables the IC. Integrated pull-down resistor", 3 Q1 (power) "Output voltage 1; 5.0 V, block to GND with a capacitor CQ1 = 1 uF, ESR < 6 O at 10 kHz", 4 SO (oc) "Sense output; Output of Early Warning Comparator, open collector output", 5 WDI (in) "Watchdog Input; Trigger Input for Watchdog pulses", 6 GND (power) "Ground; Pin 6, 11 and heat slug must be connected to GND", 7 DT (in) "DT Delay timing; connect to GND, Q1 or Q2 to select Reset and Watchdog timing", 8 SI (in) "Sense input; Input for Early Warning comparator", 9 RO (oc) "Reset output; open collector output with integrated 20 kO pull-up resistor", 10 Q2 (power) "Output voltage 2; 2.6 V (TLE 7469 GV52), 3.3 V (TLE 7469 GV53); block to GND with a capacitor CQ2 = 1 uF, ESR < 6 ohm at 10 kHz", 11 GND (power) "Ground; Pin 6, 11 and heat slug must be connected to GND", 12 I2 (power) "Input voltage 2; block to ground directly at the IC with a 100 nF ceramic capacitor", 13 EP (power) "Heat slug"

## TLE42344G
designator U?
Low Drop Linear Voltage Regulator, 5.5 to 45 V Supply, 5 V Output, -40 to 150 degC, PG-SOT223 (SC-73), Reel, Green; Manufacturer: Infineon; PartNumber: TLE42344G; Accuracy: 2 %; Dropout Voltage: 250 mV; Green: TRUE; Max. Output Current: 100 mA; Output Voltage: 5V; Regulator Type: single output; Typical Quiescent Current: 400 uA; DatasheetVersion: Rev. 1.0; PackageVersion: Apr-08; PackageReference: PG-SOT223 (SC-73); PackageDescription: 4-Pin Small Outline Transistor Package, 6.5 x 3.5 mm Body, 2.3 mm Pitch; Supplier 1: Mouser; Supplier Part Number 1: 726-TLE42344G; Supplier 2: Digi-Key; Supplier Part Number 2: TLE42344G-ND; Operating Range: 5.5 to 45 V; Packing: Reel; Mounting Technology: Surface Mount; ComponentLink1Description: Manufacturer URL; ComponentLink1URL: http://www.infineon.com/; ComponentLink2Description: Datasheet; ComponentLink2URL: http://www.infineon.com/dgdl/TLE42344_DS_10.pdf?folderId=db3a304314dca3890115039cf70d0bf0&fileId=db3a3043271faefd012775d687c115be&location=en.Products.Automotive_ICs.Linear_Voltage_Regulators_for_Automotive-Applications.Linear_Voltage_Regulators_-_Selection_Table.DATASHEET.TLE42344_DS_10.pdf; ComponentLink3Description: Package Specification; ComponentLink3URL: http://www.infineon.com/dgdl/SOT223-Package_Overview.pdf?folderId=db3a30431936bc4b0119530470b03c3d&fileId=db3a30431936bc4b0119531d40b93c5c
footprint INF-PG-SOT223_SC-73_N (SOT223, 4-Leads, Body 6.5x3.5mm, Pitch 2.3mm, IPC Medium Density)
footprint INF-PG-SOT223_SC-73_L (SOT223, 4-Leads, Body 6.5x3.5mm, Pitch 2.3mm, IPC High Density)
footprint INF-PG-SOT223_SC-73_M (SOT223, 4-Leads, Body 6.5x3.5mm, Pitch 2.3mm, IPC Low Density)
pins: 1 I (power) "Input, block to ground directly at the IC with a ceramic capacitor", 2 GND (power) "Ground", 3 Q (power) "Output, block to ground with capacitor CQ>=10uF, ESR<=2.5 ohm", 4 GND (power) "Ground"

## TLE42364G
designator U?
Low Drop Linear Voltage Regulator, 5.5 to 45 V Supply, 5 V Output, -40 to 150 degC, PG-SOT223 (SC-73), Reel, Green; Manufacturer: Infineon; PartNumber: TLE42364G; Accuracy: 2 %; Dropout Voltage: 250 mV; Green: TRUE; Max. Output Current: 100 mA; Output Voltage: 5V; Regulator Type: single output; Typical Quiescent Current: 400 uA; DatasheetVersion: Rev. 1.0; PackageVersion: Apr-08; PackageReference: PG-SOT223 (SC-73); PackageDescription: 4-Pin Small Outline Transistor Package, 6.5 x 3.5 mm Body, 2.3 mm Pitch; Supplier 1: Mouser; Supplier Part Number 1: 726-TLE42364G; Supplier 2: Digi-Key; Supplier Part Number 2: TLE42364G-ND; Operating Range: 5.5 to 45 V; Packing: Reel; Mounting Technology: Surface Mount; ComponentLink1Description: Manufacturer URL; ComponentLink1URL: http://www.infineon.com/; ComponentLink2Description: Datasheet; ComponentLink2URL: http://www.infineon.com/dgdl/TLE42364_DS_10.pdf?folderId=db3a304314dca3890115039cf70d0bf0&fileId=db3a3043271faefd012775f411d815d6&location=en.Products.Automotive_ICs.Linear_Voltage_Regulators_for_Automotive-Applications.Linear_Voltage_Regulators_-_Selection_Table.DATASHEET.TLE42364_DS_10.pdf; ComponentLink3Description: Package Specification; ComponentLink3URL: http://www.infineon.com/dgdl/SOT223-Package_Overview.pdf?folderId=db3a30431936bc4b0119530470b03c3d&fileId=db3a30431936bc4b0119531d40b93c5c
footprint INF-PG-SOT223_SC-73_N (SOT223, 4-Leads, Body 6.5x3.5mm, Pitch 2.3mm, IPC Medium Density)
footprint INF-PG-SOT223_SC-73_L (SOT223, 4-Leads, Body 6.5x3.5mm, Pitch 2.3mm, IPC High Density)
footprint INF-PG-SOT223_SC-73_M (SOT223, 4-Leads, Body 6.5x3.5mm, Pitch 2.3mm, IPC Low Density)
pins: 1 I (power) "Input; block to ground directly at the IC with a ceramic capacitor", 2 EN (in) "Enable Input; high level enables the device; low level disables the device; integrated pull-down resistor", 3 Q (power) "Output; block to ground with a capacitor close to the IC terminals, respecting the values given for its capacitance and ESR in “Functional Range” on Page 5", 4 GND (power) "Ground / Heat Slug; internally connected to leadframe and GND; connect to GND and heatsink area"

## TLE42644G
designator U?
Low Drop Fixed Voltage Regulator, 5.5 to 40 V Supply, 5 V Output, -40 to 150 degC, PG-SOT223 (SC-73), Reel, Green; Manufacturer: Infineon; PartNumber: TLE42644G; Accuracy: 3 %; Dropout Voltage: 220 mV; Green: TRUE; Max. Output Current: 100 mA; Output Voltage: 5V; Regulator Type: single output; Typical Quiescent Current: 40 uA; DatasheetVersion: Rev. 1.01; PackageVersion: Apr-08; PackageReference: PG-SOT223 (SC-73); PackageDescription: 4-Pin Small Outline Transistor Package, 6.5 x 3.5 mm Body, 2.3 mm Pitch; Supplier 1: Mouser; Supplier Part Number 1: 726-TLE42644G; Supplier 2: Digi-Key; Supplier Part Number 2: TLE42644G-ND; Operating Range: 5.5 to 40 V; Packing: Reel; Mounting Technology: Surface Mount; ComponentLink1Description: Manufacturer URL; ComponentLink1URL: http://www.infineon.com/; ComponentLink2Description: Datasheet; ComponentLink2URL: http://www.infineon.com/dgdl/TLE42644_DS_101.pdf?folderId=db3a30431ff988150120802bce1d257a&fileId=db3a3043243b5f1701246d387bb56391&location=en.Products.Automotive_ICs.Linear_Voltage_Regulators_for_Automotive-Applications.Linear_Voltage_Regulators_-_Selection_Table.DATASHEET.TLE42644_DS_101.pdf; ComponentLink3Description: Package Specification; ComponentLink3URL: http://www.infineon.com/dgdl/SOT223-Package_Overview.pdf?folderId=db3a30431936bc4b0119530470b03c3d&fileId=db3a30431936bc4b0119531d40b93c5c
footprint INF-PG-SOT223_SC-73_N (SOT223, 4-Leads, Body 6.5x3.5mm, Pitch 2.3mm, IPC Medium Density)
footprint INF-PG-SOT223_SC-73_L (SOT223, 4-Leads, Body 6.5x3.5mm, Pitch 2.3mm, IPC High Density)
footprint INF-PG-SOT223_SC-73_M (SOT223, 4-Leads, Body 6.5x3.5mm, Pitch 2.3mm, IPC Low Density)
pins: 1 I (power) "Input, block to ground directly at the IC with a ceramic capacitor", 2 GND (power) "Ground", 3 Q (power) "Output, block to ground with capacitor CQ>=10uF, ESR<=2.5 ohm", 4 GND (power) "Ground"

## TLE42664G
designator U?
Low Drop Fixed Voltage Regulator, 5.5 to 40 V Supply, 5 V Output, -40 to 150 degC, PG-SOT223 (SC-73), Reel, Green; Manufacturer: Infineon; PartNumber: TLE42664G; Accuracy: 3 %; Dropout Voltage: 250 mV; Green: TRUE; Max. Output Current: 100 mA; Output Voltage: 5V; Regulator Type: single output; Typical Quiescent Current: 40 uA; DatasheetVersion: Rev. 1.01; PackageVersion: Apr-08; PackageReference: PG-SOT223 (SC-73); PackageDescription: 4-Pin Small Outline Transistor Package, 6.5 x 3.5 mm Body, 2.3 mm Pitch; Supplier 1: Mouser; Supplier Part Number 1: 726-TLE42664G; Supplier 2: Digi-Key; Supplier Part Number 2: TLE42664G-ND; Operating Range: 5.5 to 40 V; Packing: Reel; Mounting Technology: Surface Mount; ComponentLink1Description: Manufacturer URL; ComponentLink1URL: http://www.infineon.com/; ComponentLink2Description: Datasheet; ComponentLink2URL: http://www.infineon.com/dgdl/TLE42664_DS_101.pdf?folderId=db3a30431ff988150120802bce1d257a&fileId=db3a3043243b5f1701246d3a485f6395&location=en.Products.Automotive_ICs.Linear_Voltage_Regulators_for_Automotive-Applications.Linear_Voltage_Regulators_-_Selection_Table.DATASHEET.TLE42664_DS_101.pdf; ComponentLink3Description: Package Specification; ComponentLink3URL: http://www.infineon.com/dgdl/SOT223-Package_Overview.pdf?folderId=db3a30431936bc4b0119530470b03c3d&fileId=db3a30431936bc4b0119531d40b93c5c
footprint INF-PG-SOT223_SC-73_N (SOT223, 4-Leads, Body 6.5x3.5mm, Pitch 2.3mm, IPC Medium Density)
footprint INF-PG-SOT223_SC-73_L (SOT223, 4-Leads, Body 6.5x3.5mm, Pitch 2.3mm, IPC High Density)
footprint INF-PG-SOT223_SC-73_M (SOT223, 4-Leads, Body 6.5x3.5mm, Pitch 2.3mm, IPC Low Density)
pins: 1 I (power) "Input; block to ground directly at the IC with a ceramic capacitor", 2 EN (in) "Enable Input; high level enables the device; low level disables the device; integrated pull-down resistor", 3 Q (power) "Output; block to ground with a capacitor close to the IC terminals, respecting the values given for its capacitance and ESR in “Functional Range” on Page 5", 4 GND (power) "Ground / Heat Slug; internally connected to leadframe and GND; connect to GND and heatsink area"